# Altium footprint library Motor_Driver_Module.PcbLib: 22 footprints (part 2 of 2)
Each footprint in its own frame and in the unit in brackets; x right, y up, seen from the top. Pads: shape width x height; smd on the part's side, far side on the other; paste and mask are expansions set on the pad; w line width, h text height; cw(c..) or ccw(c..) is an arc to the next point about the centre after c.
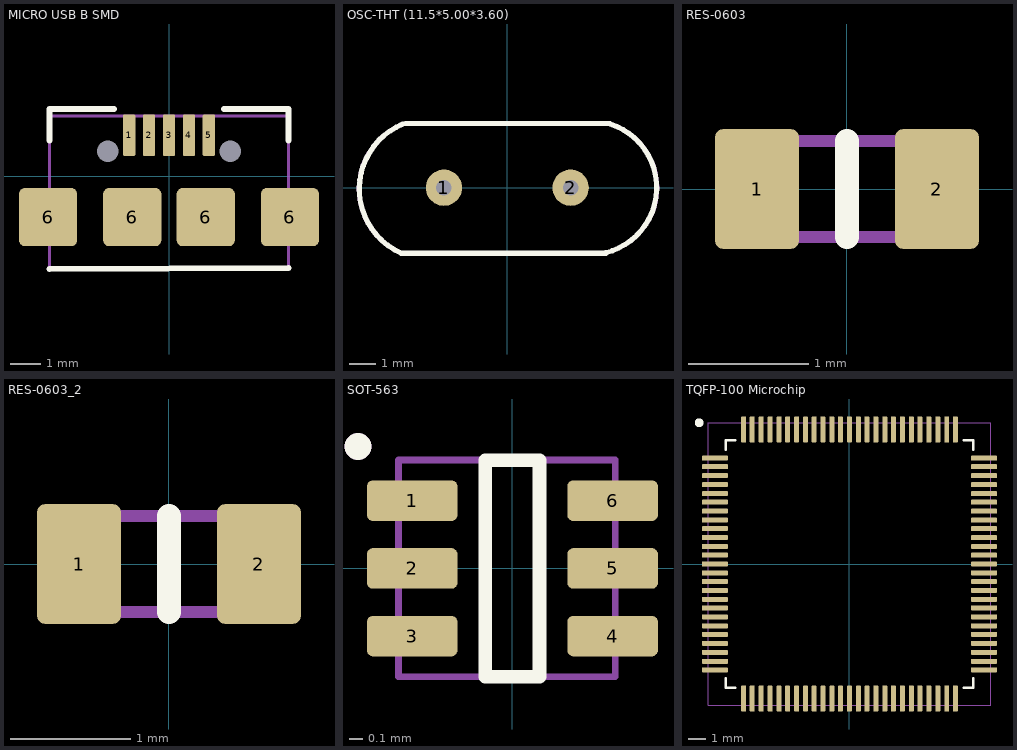
[diagram p1: the footprints below, top view; thin cyan lines are the x and y axes]

## MICRO USB B SMD [mm]
pads (11):
  round 0 hole 0.7: 0(-2,0.813) 0(2,0.813)
  rrect20% 0.4x1.35 smd: 1(-1.3,1.338) 2(-0.65,1.338) 3(0,1.338) 4(0.65,1.338) 5(1.3,1.338)
  rrect20% 1.9x1.9 smd: 6(-3.95,-1.337) 6(-1.2,-1.337) 6(1.2,-1.337) 6(3.95,-1.337)
Top Overlay:
  lines w0.2: -3.9,-3.038 3.9,-3 ; -3.9,1.163 -3.9,2.2 -1.8,2.2 ; 1.8,2.2 3.9,2.2 3.9,1.163
Mechanical 15:
  lines w0.1: -3.9,-3.038 3.9,-3.038 3.9,1.963 -3.9,1.963 -3.9,-3.038
  text ".Designator" at -0.5,-0.1 h0.7
3D body "2174507-2.stp": height 2.73, standoff 0.03, extent -3.9,-3.038 3.9,1.963

## OSC-THT (11.5*5.00*3.60) [mm]
pads (2):
  round 1.4 hole 0.6: 1(-2.44,0) 2(2.44,0)
Top Overlay:
  lines w0.2: -4.116,-2.509 cw(c-3,-0.05) -4.02,2.45 ; -4.1,-2.525 3.8,-2.525 ; -3.925,2.475 3.95,2.475 ; 3.777,-2.508 ccw(c3.175,0) 3.953,2.459
Mechanical 15:
  lines w0.1: -4.166,-2.509 cw(c-3.05,-0.05) -4.07,2.45 ; -4.15,-2.525 3.75,-2.525 ccw(c3.225,0) 3.904,2.488 ; -3.975,2.475 3.904,2.475
  text ".Designator" at -0.7,-0.3 h0.7
3D body "Xtal2.STEP": height 3.63, standoff -1.97, extent -5.486,-2.4 5.686,2.273
3D body "Xtal2.STEP": height 3.63, standoff -1.97, extent -5.586,-2.3 5.586,2.373

## RES-0603 [mm]
pads (2):
  rrect20% 0.7x1 smd: 1(-0.75,0) 2(0.75,0)
Top Overlay:
  lines w0.2: 0,-0.4 0,0.4
Mechanical 15:
  lines w0.1: -0.8,-0.4 -0.8,0.4 0.8,0.4 0.8,-0.4 -0.8,-0.4
  text ".Designator" at -0.5,-0.1 h0.7
3D body "User Library-User Library-res0603_res0603_body.STEP": height 0.51, standoff 0, extent -0.8,-0.406 0.8,0.406

## RES-0603_2 [mm]
pads (2):
  rrect20% 0.7x1 smd: 1(-0.75,0) 2(0.75,0)
Top Overlay:
  lines w0.2: 0,-0.4 0,0.4
Mechanical 15:
  lines w0.1: -0.8,-0.4 0.8,-0.4 0.8,0.4 -0.8,0.4 -0.8,-0.4
  text ".Designator" at -0.5,-0.1 h0.7
3D body "User Library-User Library-res0603_res0603_body.STEP": height 0.51, standoff 0, extent -0.8,-0.406 0.8,0.406

## SOT-563 [mm]
pads (6):
  rrect30% 0.67x0.3 smd: 1(-0.74,0.5) 2(-0.74,0) 3(-0.74,-0.5) 4(0.74,-0.5) 5(0.74,0) 6(0.74,0.5)
Top Overlay:
  lines w0.1: -0.2,-0.8 -0.2,0.8 0.2,0.8 0.2,-0.8 -0.2,-0.8
  lines w0.2: -1.14,0.9 -1.14,0.9
Mechanical 15:
  lines w0.05: -0.84,-0.8 -0.84,0.8 0.76,0.8 0.76,-0.8 -0.84,-0.8
  lines w0.2: -1.14,0.9 -1.14,0.9
  text ".Designator" at -0.14,-0.2 h0.7
3D body "TPS562202DRLR.stp": height 0.6, standoff 0.01, extent -0.84,-0.8 0.76,0.8

## TQFP-100 Microchip [mil]
pads (100):
  rrect35% 58x11 smd: 1(-300,236) 2(-300,217) 3(-300,197) 4(-300,177) 5(-300,157) 6(-300,138) 7(-300,118) 8(-300,98) 9(-300,79) 10(-300,59) 11(-300,39) 12(-300,20) 13(-300,0) 14(-300,-20) 15(-300,-39) 16(-300,-59) 17(-300,-79) 18(-300,-98) 19(-300,-118) 20(-300,-138) 21(-300,-157) 22(-300,-177) 23(-300,-197) 24(-300,-217) 25(-300,-236) 51(300,-236) 52(300,-217) 53(300,-197) 54(300,-177) 55(300,-157) 56(300,-138) 57(300,-118) 58(300,-98) 59(300,-79) 60(300,-59) 61(300,-39) 62(300,-20) 63(300,0) 64(300,20) 65(300,39) 66(300,59) 67(300,79) 68(300,98) 69(300,118) 70(300,138) 71(300,157) 72(300,177) 73(300,197) 74(300,217) 75(300,236)
  rrect35% 11x58 smd: 26(-236,-300) 27(-217,-300) 28(-197,-300) 29(-177,-300) 30(-157,-300) 31(-138,-300) 32(-118,-300) 33(-98,-300) 34(-79,-300) 35(-59,-300) 36(-39,-300) 37(-20,-300) 38(0,-300) 39(20,-300) 40(39,-300) 41(59,-300) 42(79,-300) 43(98,-300) 44(118,-300) 45(138,-300) 46(157,-300) 47(177,-300) 48(197,-300) 49(217,-300) 50(236,-300) 76(236,300) 77(217,300) 78(197,300) 79(177,300) 80(157,300) 81(138,300) 82(118,300) 83(98,300) 84(79,300) 85(59,300) 86(39,300) 87(20,300) 88(0,300) 89(-20,300) 90(-39,300) 91(-59,300) 92(-79,300) 93(-98,300) 94(-118,300) 95(-138,300) 96(-157,300) 97(-177,300) 98(-197,300) 99(-217,300) 100(-236,300)
Top Overlay:
  circle w9.84: c-335,315 r4.92
  lines w6: -276,-255 -276,-276 -255,-276 ; -276,255 -276,276 -255,276 ; 255,-276 276,-276 276,-255 ; 255,276 276,276 276,255
Mechanical 15:
  lines w1.97: -314.96,-314.96 314.96,-314.96 314.96,314.96 -314.96,314.96 -314.96,-314.96
  lines w7.87: -334.65,314.96 -334.65,314.96
  text ".Designator" at 0,0 h27.56
3D body "ATMEGA2560-16AU--3DModel-STEP-56544.STEP": height 46.26, standoff -0.98, extent -314.95,-314.95 314.97,314.97